# Altium footprint library BGA (0.8mm Pitch, Square).PcbLib: 26 footprints (part 1 of 2)
Each footprint in its own frame and in the unit in brackets; x right, y up, seen from the top. Pads: shape width x height; smd on the part's side, far side on the other; paste and mask are expansions set on the pad; w line width, h text height; cw(c..) or ccw(c..) is an arc to the next point about the centre after c.
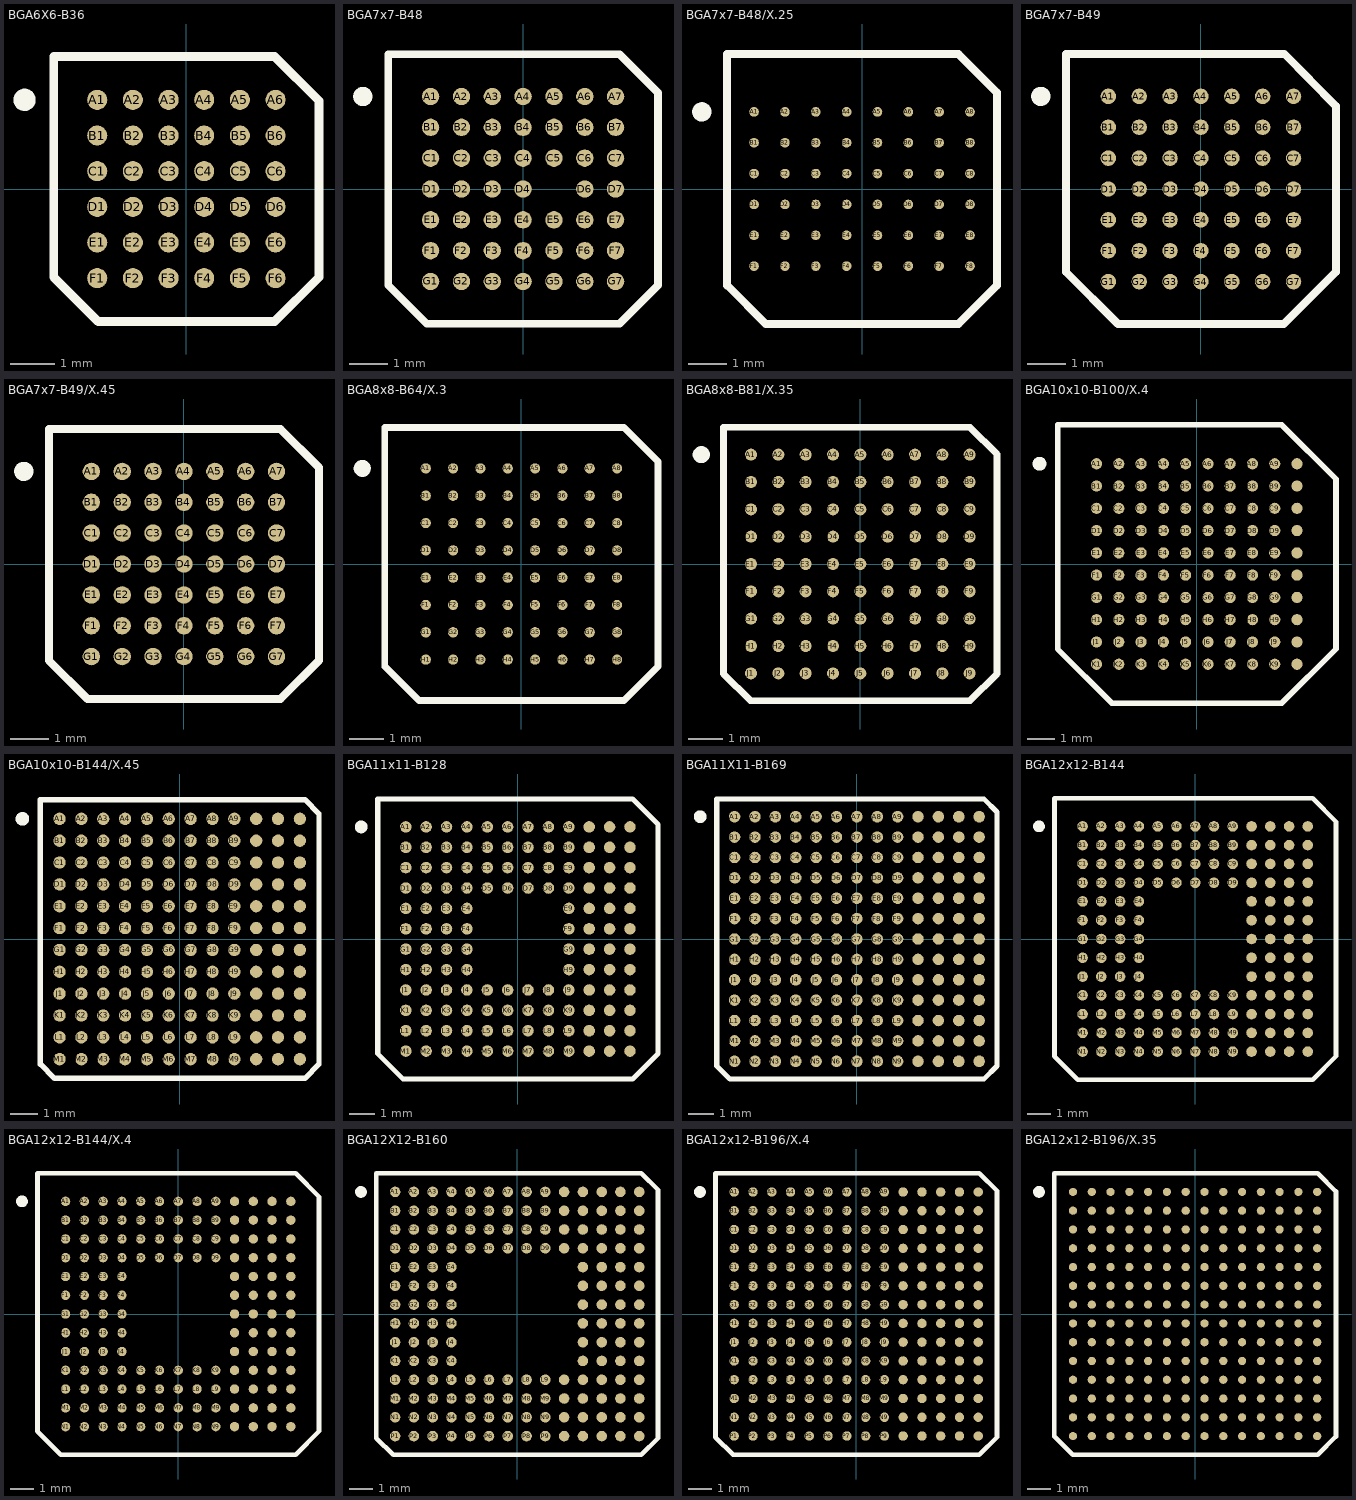
[diagram p0: the footprints below, top view; thin cyan lines are the x and y axes]

## BGA6X6-B36 [mm] "BGA, Low Profile; 36 Balls; Body 6 x 6 mm; Pitch 0.8 mm"
height 1.7
pads (36):
  round 0.45 smd: A1(-2,2) A2(-1.2,2) A3(-0.4,2) A4(0.4,2) A5(1.2,2) A6(2,2) B1(-2,1.2) B2(-1.2,1.2) B3(-0.4,1.2) B4(0.4,1.2) B5(1.2,1.2) B6(2,1.2) C1(-2,0.4) C2(-1.2,0.4) C3(-0.4,0.4) C4(0.4,0.4) C5(1.2,0.4) C6(2,0.4) D1(-2,-0.4) D2(-1.2,-0.4) D3(-0.4,-0.4) D4(0.4,-0.4) D5(1.2,-0.4) D6(2,-0.4) E1(-2,-1.2) E2(-1.2,-1.2) E3(-0.4,-1.2) E4(0.4,-1.2) E5(1.2,-1.2) E6(2,-1.2) F1(-2,-2) F2(-1.2,-2) F3(-0.4,-2) F4(0.4,-2) F5(1.2,-2) F6(2,-2)
Top Overlay:
  circle w0.25: c-3.63,2 r0.125
  lines w0.2: -2.975,-1.975 -1.975,-2.975 1.975,-2.975 2.975,-1.975 2.975,1.975 1.975,2.975 -2.975,2.975 -2.975,-1.975

## BGA7x7-B48 [mm] "48-Ball Chip Scale Ball Grid Array (CS48)"
height 1.8
pads (48):
  round 0.45 smd: A1(-2.4,2.4) A2(-1.6,2.4) A3(-0.8,2.4) A4(0,2.4) A5(0.8,2.4) A6(1.6,2.4) A7(2.4,2.4) B1(-2.4,1.6) B2(-1.6,1.6) B3(-0.8,1.6) B4(0,1.6) B5(0.8,1.6) B6(1.6,1.6) B7(2.4,1.6) C1(-2.4,0.8) C2(-1.6,0.8) C3(-0.8,0.8) C4(0,0.8) C5(0.8,0.8) C6(1.6,0.8) C7(2.4,0.8) D1(-2.4,0) D2(-1.6,0) D3(-0.8,0) D4(0,0) D6(1.6,0) D7(2.4,0) E1(-2.4,-0.8) E2(-1.6,-0.8) E3(-0.8,-0.8) E4(0,-0.8) E5(0.8,-0.8) E6(1.6,-0.8) E7(2.4,-0.8) F1(-2.4,-1.6) F2(-1.6,-1.6) F3(-0.8,-1.6) F4(0,-1.6) F5(0.8,-1.6) F6(1.6,-1.6) F7(2.4,-1.6) G1(-2.4,-2.4) G2(-1.6,-2.4) G3(-0.8,-2.4) G4(0,-2.4) G5(0.8,-2.4) G6(1.6,-2.4) G7(2.4,-2.4)
Top Overlay:
  circle w0.25: c-4.16,2.4 r0.125
  lines w0.2: -3.5,-2.5 -2.5,-3.5 2.5,-3.5 3.5,-2.5 3.5,2.5 2.5,3.5 -3.5,3.5 -3.5,-2.5

## BGA7x7-B48/X.25 [mm] "Thin BGA; 48 Balls; Body 7 x 7 mm; Pitch 0.8 mm"
height 1.2
pads (48):
  round 0.25 smd: A1(-2.8,2) A2(-2,2) A3(-1.2,2) A4(-0.4,2) A5(0.4,2) A6(1.2,2) A7(2,2) A8(2.8,2) B1(-2.8,1.2) B2(-2,1.2) B3(-1.2,1.2) B4(-0.4,1.2) B5(0.4,1.2) B6(1.2,1.2) B7(2,1.2) B8(2.8,1.2) C1(-2.8,0.4) C2(-2,0.4) C3(-1.2,0.4) C4(-0.4,0.4) C5(0.4,0.4) C6(1.2,0.4) C7(2,0.4) C8(2.8,0.4) D1(-2.8,-0.4) D2(-2,-0.4) D3(-1.2,-0.4) D4(-0.4,-0.4) D5(0.4,-0.4) D6(1.2,-0.4) D7(2,-0.4) D8(2.8,-0.4) E1(-2.8,-1.2) E2(-2,-1.2) E3(-1.2,-1.2) E4(-0.4,-1.2) E5(0.4,-1.2) E6(1.2,-1.2) E7(2,-1.2) E8(2.8,-1.2) F1(-2.8,-2) F2(-2,-2) F3(-1.2,-2) F4(-0.4,-2) F5(0.4,-2) F6(1.2,-2) F7(2,-2) F8(2.8,-2)
Top Overlay:
  circle w0.25: c-4.155,2 r0.125
  lines w0.2: -3.5,-2.5 -2.5,-3.5 2.5,-3.5 3.5,-2.5 3.5,2.5 2.5,3.5 -3.5,3.5 -3.5,-2.5

## BGA7x7-B49 [mm] "BGA; 49 Balls; Body 7 x 7 mm; Pitch 0.8 mm"
height 1.5
pads (49):
  round 0.4 smd: A1(-2.4,2.4) A2(-1.6,2.4) A3(-0.8,2.4) A4(0,2.4) A5(0.8,2.4) A6(1.6,2.4) A7(2.4,2.4) B1(-2.4,1.6) B2(-1.6,1.6) B3(-0.8,1.6) B4(0,1.6) B5(0.8,1.6) B6(1.6,1.6) B7(2.4,1.6) C1(-2.4,0.8) C2(-1.6,0.8) C3(-0.8,0.8) C4(0,0.8) C5(0.8,0.8) C6(1.6,0.8) C7(2.4,0.8) D1(-2.4,0) D2(-1.6,0) D3(-0.8,0) D4(0,0) D5(0.8,0) D6(1.6,0) D7(2.4,0) E1(-2.4,-0.8) E2(-1.6,-0.8) E3(-0.8,-0.8) E4(0,-0.8) E5(0.8,-0.8) E6(1.6,-0.8) E7(2.4,-0.8) F1(-2.4,-1.6) F2(-1.6,-1.6) F3(-0.8,-1.6) F4(0,-1.6) F5(0.8,-1.6) F6(1.6,-1.6) F7(2.4,-1.6) G1(-2.4,-2.4) G2(-1.6,-2.4) G3(-0.8,-2.4) G4(0,-2.4) G5(0.8,-2.4) G6(1.6,-2.4) G7(2.4,-2.4)
Top Overlay:
  circle w0.25: c-4.15,2.4 r0.125
  lines w0.2: 2.149,3.5 -3.5,3.5 -3.5,-2.149 -2.149,-3.5 2.149,-3.5 3.5,-2.149 3.5,2.149 2.159,3.5

## BGA7x7-B49/X.45 [mm] "49-Pin Chip Scale Package (CSP)"
height 1.5
pads (49):
  round 0.45 smd: A1(-2.4,2.4) A2(-1.6,2.4) A3(-0.8,2.4) A4(0,2.4) A5(0.8,2.4) A6(1.6,2.4) A7(2.4,2.4) B1(-2.4,1.6) B2(-1.6,1.6) B3(-0.8,1.6) B4(0,1.6) B5(0.8,1.6) B6(1.6,1.6) B7(2.4,1.6) C1(-2.4,0.8) C2(-1.6,0.8) C3(-0.8,0.8) C4(0,0.8) C5(0.8,0.8) C6(1.6,0.8) C7(2.4,0.8) D1(-2.4,0) D2(-1.6,0) D3(-0.8,0) D4(0,0) D5(0.8,0) D6(1.6,0) D7(2.4,0) E1(-2.4,-0.8) E2(-1.6,-0.8) E3(-0.8,-0.8) E4(0,-0.8) E5(0.8,-0.8) E6(1.6,-0.8) E7(2.4,-0.8) F1(-2.4,-1.6) F2(-1.6,-1.6) F3(-0.8,-1.6) F4(0,-1.6) F5(0.8,-1.6) F6(1.6,-1.6) F7(2.4,-1.6) G1(-2.4,-2.4) G2(-1.6,-2.4) G3(-0.8,-2.4) G4(0,-2.4) G5(0.8,-2.4) G6(1.6,-2.4) G7(2.4,-2.4)
Top Overlay:
  circle w0.25: c-4.15,2.4 r0.125
  lines w0.2: -3.5,-2.5 -3.5,3.5 2.5,3.5 3.5,2.5 3.5,-2.5 2.5,-3.5 -2.5,-3.5 -3.5,-2.5

## BGA8x8-B64/X.3 [mm] "BGA; 64 Balls; Body 8 x 8 mm; Pitch 0.8 mm"
height 1.1
pads (64):
  round 0.3 smd: A1(-2.8,2.8) A2(-2,2.8) A3(-1.2,2.8) A4(-0.4,2.8) A5(0.4,2.8) A6(1.2,2.8) A7(2,2.8) A8(2.8,2.8) B1(-2.8,2) B2(-2,2) B3(-1.2,2) B4(-0.4,2) B5(0.4,2) B6(1.2,2) B7(2,2) B8(2.8,2) C1(-2.8,1.2) C2(-2,1.2) C3(-1.2,1.2) C4(-0.4,1.2) C5(0.4,1.2) C6(1.2,1.2) C7(2,1.2) C8(2.8,1.2) D1(-2.8,0.4) D2(-2,0.4) D3(-1.2,0.4) D4(-0.4,0.4) D5(0.4,0.4) D6(1.2,0.4) D7(2,0.4) D8(2.8,0.4) E1(-2.8,-0.4) E2(-2,-0.4) E3(-1.2,-0.4) E4(-0.4,-0.4) E5(0.4,-0.4) E6(1.2,-0.4) E7(2,-0.4) E8(2.8,-0.4) F1(-2.8,-1.2) F2(-2,-1.2) F3(-1.2,-1.2) F4(-0.4,-1.2) F5(0.4,-1.2) F6(1.2,-1.2) F7(2,-1.2) F8(2.8,-1.2) G1(-2.8,-2) G2(-2,-2) G3(-1.2,-2) G4(-0.4,-2) G5(0.4,-2) G6(1.2,-2) G7(2,-2) G8(2.8,-2) H1(-2.8,-2.8) H2(-2,-2.8) H3(-1.2,-2.8) H4(-0.4,-2.8) H5(0.4,-2.8) H6(1.2,-2.8) H7(2,-2.8) H8(2.8,-2.8)
Top Overlay:
  circle w0.25: c-4.66,2.8 r0.125
  lines w0.2: -4,-3 -4,4 3,4 4,3 4,-3 3,-4 -3,-4 -4,-3

## BGA8x8-B81/X.35 [mm] "MAP-BGA; 81 Balls; Body 8 x 8 mm; Pitch 0.8 mm"
height 1.3
pads (81):
  round 0.35 smd: A1(-3.2,3.2) A2(-2.4,3.2) A3(-1.6,3.2) A4(-0.8,3.2) A5(0,3.2) A6(0.8,3.2) A7(1.6,3.2) A8(2.4,3.2) A9(3.2,3.2) B1(-3.2,2.4) B2(-2.4,2.4) B3(-1.6,2.4) B4(-0.8,2.4) B5(0,2.4) B6(0.8,2.4) B7(1.6,2.4) B8(2.4,2.4) B9(3.2,2.4) C1(-3.2,1.6) C2(-2.4,1.6) C3(-1.6,1.6) C4(-0.8,1.6) C5(0,1.6) C6(0.8,1.6) C7(1.6,1.6) C8(2.4,1.6) C9(3.2,1.6) D1(-3.2,0.8) D2(-2.4,0.8) D3(-1.6,0.8) D4(-0.8,0.8) D5(0,0.8) D6(0.8,0.8) D7(1.6,0.8) D8(2.4,0.8) D9(3.2,0.8) E1(-3.2,0) E2(-2.4,0) E3(-1.6,0) E4(-0.8,0) E5(0,0) E6(0.8,0) E7(1.6,0) E8(2.4,0) E9(3.2,0) F1(-3.2,-0.8) F2(-2.4,-0.8) F3(-1.6,-0.8) F4(-0.8,-0.8) F5(0,-0.8) F6(0.8,-0.8) F7(1.6,-0.8) F8(2.4,-0.8) F9(3.2,-0.8) G1(-3.2,-1.6) G2(-2.4,-1.6) G3(-1.6,-1.6) G4(-0.8,-1.6) G5(0,-1.6) G6(0.8,-1.6) G7(1.6,-1.6) G8(2.4,-1.6) G9(3.2,-1.6) H1(-3.2,-2.4) H2(-2.4,-2.4) H3(-1.6,-2.4) H4(-0.8,-2.4) H5(0,-2.4) H6(0.8,-2.4) H7(1.6,-2.4) H8(2.4,-2.4) H9(3.2,-2.4) J1(-3.2,-3.2) J2(-2.4,-3.2) J3(-1.6,-3.2) J4(-0.8,-3.2) J5(0,-3.2) J6(0.8,-3.2) J7(1.6,-3.2) J8(2.4,-3.2) J9(3.2,-3.2)
Top Overlay:
  circle w0.25: c-4.655,3.2 r0.125
  lines w0.2: -4,-3.213 -3.213,-4 3.213,-4 4,-3.213 4,3.213 3.213,4 -4,4 -4,-3.213

## BGA10x10-B100/X.4 [mm] "BGA; 100 Balls; Body 10 x 10 mm; Pitch 0.8 mm"
height 1.5
pads (100):
  round 0.4 smd: A1(-3.6,3.6) A2(-2.8,3.6) A3(-2,3.6) A4(-1.2,3.6) A5(-0.4,3.6) A6(0.4,3.6) A7(1.2,3.6) A8(2,3.6) A9(2.8,3.6) A10(3.6,3.6) B1(-3.6,2.8) B2(-2.8,2.8) B3(-2,2.8) B4(-1.2,2.8) B5(-0.4,2.8) B6(0.4,2.8) B7(1.2,2.8) B8(2,2.8) B9(2.8,2.8) B10(3.6,2.8) C1(-3.6,2) C2(-2.8,2) C3(-2,2) C4(-1.2,2) C5(-0.4,2) C6(0.4,2) C7(1.2,2) C8(2,2) C9(2.8,2) C10(3.6,2) D1(-3.6,1.2) D2(-2.8,1.2) D3(-2,1.2) D4(-1.2,1.2) D5(-0.4,1.2) D6(0.4,1.2) D7(1.2,1.2) D8(2,1.2) D9(2.8,1.2) D10(3.6,1.2) E1(-3.6,0.4) E2(-2.8,0.4) E3(-2,0.4) E4(-1.2,0.4) E5(-0.4,0.4) E6(0.4,0.4) E7(1.2,0.4) E8(2,0.4) E9(2.8,0.4) E10(3.6,0.4) F1(-3.6,-0.4) F2(-2.8,-0.4) F3(-2,-0.4) F4(-1.2,-0.4) F5(-0.4,-0.4) F6(0.4,-0.4) F7(1.2,-0.4) F8(2,-0.4) F9(2.8,-0.4) F10(3.6,-0.4) G1(-3.6,-1.2) G2(-2.8,-1.2) G3(-2,-1.2) G4(-1.2,-1.2) G5(-0.4,-1.2) G6(0.4,-1.2) G7(1.2,-1.2) G8(2,-1.2) G9(2.8,-1.2) G10(3.6,-1.2) H1(-3.6,-2) H2(-2.8,-2) H3(-2,-2) H4(-1.2,-2) H5(-0.4,-2) H6(0.4,-2) H7(1.2,-2) H8(2,-2) H9(2.8,-2) H10(3.6,-2) J1(-3.6,-2.8) J2(-2.8,-2.8) J3(-2,-2.8) J4(-1.2,-2.8) J5(-0.4,-2.8) J6(0.4,-2.8) J7(1.2,-2.8) J8(2,-2.8) J9(2.8,-2.8) J10(3.6,-2.8) K1(-3.6,-3.6) K2(-2.8,-3.6) K3(-2,-3.6) K4(-1.2,-3.6) K5(-0.4,-3.6) K6(0.4,-3.6) K7(1.2,-3.6) K8(2,-3.6) K9(2.8,-3.6) K10(3.6,-3.6)
Top Overlay:
  circle w0.25: c-5.65,3.6 r0.125
  lines w0.2: -5,-3.049 -5,5 3.049,5 5,3.049 5,-3.049 3.049,-5 -3.049,-5 -5,-3.049

## BGA10x10-B144/X.45 [mm] "BGA; 144 Balls; Body 10 x 10 mm; Pitch 0.8 mm"
height 1.4
pads (144):
  round 0.45 smd: A1(-4.4,4.4) A2(-3.6,4.4) A3(-2.8,4.4) A4(-2,4.4) A5(-1.2,4.4) A6(-0.4,4.4) A7(0.4,4.4) A8(1.2,4.4) A9(2,4.4) A10(2.8,4.4) A11(3.6,4.4) A12(4.4,4.4) B1(-4.4,3.6) B2(-3.6,3.6) B3(-2.8,3.6) B4(-2,3.6) B5(-1.2,3.6) B6(-0.4,3.6) B7(0.4,3.6) B8(1.2,3.6) B9(2,3.6) B10(2.8,3.6) B11(3.6,3.6) B12(4.4,3.6) C1(-4.4,2.8) C2(-3.6,2.8) C3(-2.8,2.8) C4(-2,2.8) C5(-1.2,2.8) C6(-0.4,2.8) C7(0.4,2.8) C8(1.2,2.8) C9(2,2.8) C10(2.8,2.8) C11(3.6,2.8) C12(4.4,2.8) D1(-4.4,2) D2(-3.6,2) D3(-2.8,2) D4(-2,2) D5(-1.2,2) D6(-0.4,2) D7(0.4,2) D8(1.2,2) D9(2,2) D10(2.8,2) D11(3.6,2) D12(4.4,2) E1(-4.4,1.2) E2(-3.6,1.2) E3(-2.8,1.2) E4(-2,1.2) E5(-1.2,1.2) E6(-0.4,1.2) E7(0.4,1.2) E8(1.2,1.2) E9(2,1.2) E10(2.8,1.2) E11(3.6,1.2) E12(4.4,1.2) F1(-4.4,0.4) F2(-3.6,0.4) F3(-2.8,0.4) F4(-2,0.4) F5(-1.2,0.4) F6(-0.4,0.4) F7(0.4,0.4) F8(1.2,0.4) F9(2,0.4) F10(2.8,0.4) F11(3.6,0.4) F12(4.4,0.4) G1(-4.4,-0.4) G2(-3.6,-0.4) G3(-2.8,-0.4) G4(-2,-0.4) G5(-1.2,-0.4) G6(-0.4,-0.4) G7(0.4,-0.4) G8(1.2,-0.4) G9(2,-0.4) G10(2.8,-0.4) G11(3.6,-0.4) G12(4.4,-0.4) H1(-4.4,-1.2) H2(-3.6,-1.2) H3(-2.8,-1.2) H4(-2,-1.2) H5(-1.2,-1.2) H6(-0.4,-1.2) H7(0.4,-1.2) H8(1.2,-1.2) H9(2,-1.2) H10(2.8,-1.2) H11(3.6,-1.2) H12(4.4,-1.2) J1(-4.4,-2) J2(-3.6,-2) J3(-2.8,-2) J4(-2,-2) J5(-1.2,-2) J6(-0.4,-2) J7(0.4,-2) J8(1.2,-2) J9(2,-2) J10(2.8,-2) J11(3.6,-2) J12(4.4,-2) K1(-4.4,-2.8) K2(-3.6,-2.8) K3(-2.8,-2.8) K4(-2,-2.8) K5(-1.2,-2.8) K6(-0.4,-2.8) K7(0.4,-2.8) K8(1.2,-2.8) K9(2,-2.8) K10(2.8,-2.8) K11(3.6,-2.8) K12(4.4,-2.8) L1(-4.4,-3.6) L2(-3.6,-3.6) L3(-2.8,-3.6) L4(-2,-3.6) L5(-1.2,-3.6) L6(-0.4,-3.6) L7(0.4,-3.6) L8(1.2,-3.6) L9(2,-3.6) L10(2.8,-3.6) L11(3.6,-3.6) L12(4.4,-3.6) M1(-4.4,-4.4) M2(-3.6,-4.4) M3(-2.8,-4.4) M4(-2,-4.4) M5(-1.2,-4.4) M6(-0.4,-4.4) M7(0.4,-4.4) M8(1.2,-4.4) M9(2,-4.4) M10(2.8,-4.4) M11(3.6,-4.4) M12(4.4,-4.4)
Top Overlay:
  circle w0.25: c-5.76,4.4 r0.125
  lines w0.2: -5.1,-4.584 -5.1,5.1 4.584,5.1 5.1,4.584 5.1,-4.584 4.584,-5.1 -4.584,-5.1 -5.1,-4.584

## BGA11x11-B128 [mm] "128-Pin Chip Scale Package (CSP)"
height 1.5
pads (128):
  round 0.45 smd: A1(-4.4,4.4) A2(-3.6,4.4) A3(-2.8,4.4) A4(-2,4.4) A5(-1.2,4.4) A6(-0.4,4.4) A7(0.4,4.4) A8(1.2,4.4) A9(2,4.4) A10(2.8,4.4) A11(3.6,4.4) A12(4.4,4.4) B1(-4.4,3.6) B2(-3.6,3.6) B3(-2.8,3.6) B4(-2,3.6) B5(-1.2,3.6) B6(-0.4,3.6) B7(0.4,3.6) B8(1.2,3.6) B9(2,3.6) B10(2.8,3.6) B11(3.6,3.6) B12(4.4,3.6) C1(-4.4,2.8) C2(-3.6,2.8) C3(-2.8,2.8) C4(-2,2.8) C5(-1.2,2.8) C6(-0.4,2.8) C7(0.4,2.8) C8(1.2,2.8) C9(2,2.8) C10(2.8,2.8) C11(3.6,2.8) C12(4.4,2.8) D1(-4.4,2) D2(-3.6,2) D3(-2.8,2) D4(-2,2) D5(-1.2,2) D6(-0.4,2) D7(0.4,2) D8(1.2,2) D9(2,2) D10(2.8,2) D11(3.6,2) D12(4.4,2) E1(-4.4,1.2) E2(-3.6,1.2) E3(-2.8,1.2) E4(-2,1.2) E9(2,1.2) E10(2.8,1.2) E11(3.6,1.2) E12(4.4,1.2) F1(-4.4,0.4) F2(-3.6,0.4) F3(-2.8,0.4) F4(-2,0.4) F9(2,0.4) F10(2.8,0.4) F11(3.6,0.4) F12(4.4,0.4) G1(-4.4,-0.4) G2(-3.6,-0.4) G3(-2.8,-0.4) G4(-2,-0.4) G9(2,-0.4) G10(2.8,-0.4) G11(3.6,-0.4) G12(4.4,-0.4) H1(-4.4,-1.2) H2(-3.6,-1.2) H3(-2.8,-1.2) H4(-2,-1.2) H9(2,-1.2) H10(2.8,-1.2) H11(3.6,-1.2) H12(4.4,-1.2) J1(-4.4,-2) J2(-3.6,-2) J3(-2.8,-2) J4(-2,-2) J5(-1.2,-2) J6(-0.4,-2) J7(0.4,-2) J8(1.2,-2) J9(2,-2) J10(2.8,-2) J11(3.6,-2) J12(4.4,-2) K1(-4.4,-2.8) K2(-3.6,-2.8) K3(-2.8,-2.8) K4(-2,-2.8) K5(-1.2,-2.8) K6(-0.4,-2.8) K7(0.4,-2.8) K8(1.2,-2.8) K9(2,-2.8) K10(2.8,-2.8) K11(3.6,-2.8) K12(4.4,-2.8) L1(-4.4,-3.6) L2(-3.6,-3.6) L3(-2.8,-3.6) L4(-2,-3.6) L5(-1.2,-3.6) L6(-0.4,-3.6) L7(0.4,-3.6) L8(1.2,-3.6) L9(2,-3.6) L10(2.8,-3.6) L11(3.6,-3.6) L12(4.4,-3.6) M1(-4.4,-4.4) M2(-3.6,-4.4) M3(-2.8,-4.4) M4(-2,-4.4) M5(-1.2,-4.4) M6(-0.4,-4.4) M7(0.4,-4.4) M8(1.2,-4.4) M9(2,-4.4) M10(2.8,-4.4) M11(3.6,-4.4) M12(4.4,-4.4)
Top Overlay:
  circle w0.25: c-6.15,4.4 r0.125
  lines w0.2: -5.5,-4.5 -5.5,5.5 4.5,5.5 5.5,4.5 5.5,-4.5 4.5,-5.5 -4.5,-5.5 -5.5,-4.5

## BGA11X11-B169 [mm] "169-Pin Ultra FineLine Ball-Grid Array (UBGA)"
height 2.2
pads (169):
  round 0.45 smd: A1(-4.8,4.8) A2(-4,4.8) A3(-3.2,4.8) A4(-2.4,4.8) A5(-1.6,4.8) A6(-0.8,4.8) A7(0,4.8) A8(0.8,4.8) A9(1.6,4.8) A10(2.4,4.8) A11(3.2,4.8) A12(4,4.8) A13(4.8,4.8) B1(-4.8,4) B2(-4,4) B3(-3.2,4) B4(-2.4,4) B5(-1.6,4) B6(-0.8,4) B7(0,4) B8(0.8,4) B9(1.6,4) B10(2.4,4) B11(3.2,4) B12(4,4) B13(4.8,4) C1(-4.8,3.2) C2(-4,3.2) C3(-3.2,3.2) C4(-2.4,3.2) C5(-1.6,3.2) C6(-0.8,3.2) C7(0,3.2) C8(0.8,3.2) C9(1.6,3.2) C10(2.4,3.2) C11(3.2,3.2) C12(4,3.2) C13(4.8,3.2) D1(-4.8,2.4) D2(-4,2.4) D3(-3.2,2.4) D4(-2.4,2.4) D5(-1.6,2.4) D6(-0.8,2.4) D7(0,2.4) D8(0.8,2.4) D9(1.6,2.4) D10(2.4,2.4) D11(3.2,2.4) D12(4,2.4) D13(4.8,2.4) E1(-4.8,1.6) E2(-4,1.6) E3(-3.2,1.6) E4(-2.4,1.6) E5(-1.6,1.6) E6(-0.8,1.6) E7(0,1.6) E8(0.8,1.6) E9(1.6,1.6) E10(2.4,1.6) E11(3.2,1.6) E12(4,1.6) E13(4.8,1.6) F1(-4.8,0.8) F2(-4,0.8) F3(-3.2,0.8) F4(-2.4,0.8) F5(-1.6,0.8) F6(-0.8,0.8) F7(0,0.8) F8(0.8,0.8) F9(1.6,0.8) F10(2.4,0.8) F11(3.2,0.8) F12(4,0.8) F13(4.8,0.8) G1(-4.8,0) G2(-4,0) G3(-3.2,0) G4(-2.4,0) G5(-1.6,0) G6(-0.8,0) G7(0,0) G8(0.8,0) G9(1.6,0) G10(2.4,0) G11(3.2,0) G12(4,0) G13(4.8,0) H1(-4.8,-0.8) H2(-4,-0.8) H3(-3.2,-0.8) H4(-2.4,-0.8) H5(-1.6,-0.8) H6(-0.8,-0.8) H7(0,-0.8) H8(0.8,-0.8) H9(1.6,-0.8) H10(2.4,-0.8) H11(3.2,-0.8) H12(4,-0.8) H13(4.8,-0.8) J1(-4.8,-1.6) J2(-4,-1.6) J3(-3.2,-1.6) J4(-2.4,-1.6) J5(-1.6,-1.6) J6(-0.8,-1.6) J7(0,-1.6) J8(0.8,-1.6) J9(1.6,-1.6) J10(2.4,-1.6) J11(3.2,-1.6) J12(4,-1.6) J13(4.8,-1.6) K1(-4.8,-2.4) K2(-4,-2.4) K3(-3.2,-2.4) K4(-2.4,-2.4) K5(-1.6,-2.4) K6(-0.8,-2.4) K7(0,-2.4) K8(0.8,-2.4) K9(1.6,-2.4) K10(2.4,-2.4) K11(3.2,-2.4) K12(4,-2.4) K13(4.8,-2.4) L1(-4.8,-3.2) L2(-4,-3.2) L3(-3.2,-3.2) L4(-2.4,-3.2) L5(-1.6,-3.2) L6(-0.8,-3.2) L7(0,-3.2) L8(0.8,-3.2) L9(1.6,-3.2) L10(2.4,-3.2) L11(3.2,-3.2) L12(4,-3.2) L13(4.8,-3.2) M1(-4.8,-4) M2(-4,-4) M3(-3.2,-4) M4(-2.4,-4) M5(-1.6,-4) M6(-0.8,-4) M7(0,-4) M8(0.8,-4) M9(1.6,-4) M10(2.4,-4) M11(3.2,-4) M12(4,-4) M13(4.8,-4) N1(-4.8,-4.8) N2(-4,-4.8) N3(-3.2,-4.8) N4(-2.4,-4.8) N5(-1.6,-4.8) N6(-0.8,-4.8) N7(0,-4.8) N8(0.8,-4.8) N9(1.6,-4.8) N10(2.4,-4.8) N11(3.2,-4.8) N12(4,-4.8) N13(4.8,-4.8)
Top Overlay:
  circle w0.25: c-6.15,4.8 r0.125
  lines w0.2: -5.5,-4.984 -4.984,-5.5 4.984,-5.5 5.5,-4.984 5.5,4.984 4.984,5.5 -5.5,5.5 -5.5,-4.984

## BGA12x12-B144 [mm] "BGA; 144 Balls; Body 12 x 12 mm; Pitch 0.8 mm"
height 1.4
pads (144):
  round 0.45 smd: A1(-4.8,4.8) A2(-4,4.8) A3(-3.2,4.8) A4(-2.4,4.8) A5(-1.6,4.8) A6(-0.8,4.8) A7(0,4.8) A8(0.8,4.8) A9(1.6,4.8) A10(2.4,4.8) A11(3.2,4.8) A12(4,4.8) A13(4.8,4.8) B1(-4.8,4) B2(-4,4) B3(-3.2,4) B4(-2.4,4) B5(-1.6,4) B6(-0.8,4) B7(0,4) B8(0.8,4) B9(1.6,4) B10(2.4,4) B11(3.2,4) B12(4,4) B13(4.8,4) C1(-4.8,3.2) C2(-4,3.2) C3(-3.2,3.2) C4(-2.4,3.2) C5(-1.6,3.2) C6(-0.8,3.2) C7(0,3.2) C8(0.8,3.2) C9(1.6,3.2) C10(2.4,3.2) C11(3.2,3.2) C12(4,3.2) C13(4.8,3.2) D1(-4.8,2.4) D2(-4,2.4) D3(-3.2,2.4) D4(-2.4,2.4) D5(-1.6,2.4) D6(-0.8,2.4) D7(0,2.4) D8(0.8,2.4) D9(1.6,2.4) D10(2.4,2.4) D11(3.2,2.4) D12(4,2.4) D13(4.8,2.4) E1(-4.8,1.6) E2(-4,1.6) E3(-3.2,1.6) E4(-2.4,1.6) E10(2.4,1.6) E11(3.2,1.6) E12(4,1.6) E13(4.8,1.6) F1(-4.8,0.8) F2(-4,0.8) F3(-3.2,0.8) F4(-2.4,0.8) F10(2.4,0.8) F11(3.2,0.8) F12(4,0.8) F13(4.8,0.8) G1(-4.8,0) G2(-4,0) G3(-3.2,0) G4(-2.4,0) G10(2.4,0) G11(3.2,0) G12(4,0) G13(4.8,0) H1(-4.8,-0.8) H2(-4,-0.8) H3(-3.2,-0.8) H4(-2.4,-0.8) H10(2.4,-0.8) H11(3.2,-0.8) H12(4,-0.8) H13(4.8,-0.8) J1(-4.8,-1.6) J2(-4,-1.6) J3(-3.2,-1.6) J4(-2.4,-1.6) J10(2.4,-1.6) J11(3.2,-1.6) J12(4,-1.6) J13(4.8,-1.6) K1(-4.8,-2.4) K2(-4,-2.4) K3(-3.2,-2.4) K4(-2.4,-2.4) K5(-1.6,-2.4) K6(-0.8,-2.4) K7(0,-2.4) K8(0.8,-2.4) K9(1.6,-2.4) K10(2.4,-2.4) K11(3.2,-2.4) K12(4,-2.4) K13(4.8,-2.4) L1(-4.8,-3.2) L2(-4,-3.2) L3(-3.2,-3.2) L4(-2.4,-3.2) L5(-1.6,-3.2) L6(-0.8,-3.2) L7(0,-3.2) L8(0.8,-3.2) L9(1.6,-3.2) L10(2.4,-3.2) L11(3.2,-3.2) L12(4,-3.2) L13(4.8,-3.2) M1(-4.8,-4) M2(-4,-4) M3(-3.2,-4) M4(-2.4,-4) M5(-1.6,-4) M6(-0.8,-4) M7(0,-4) M8(0.8,-4) M9(1.6,-4) M10(2.4,-4) M11(3.2,-4) M12(4,-4) M13(4.8,-4) N1(-4.8,-4.8) N2(-4,-4.8) N3(-3.2,-4.8) N4(-2.4,-4.8) N5(-1.6,-4.8) N6(-0.8,-4.8) N7(0,-4.8) N8(0.8,-4.8) N9(1.6,-4.8) N10(2.4,-4.8) N11(3.2,-4.8) N12(4,-4.8) N13(4.8,-4.8)
Top Overlay:
  circle w0.25: c-6.66,4.8 r0.125
  lines w0.2: -6,-5 -6,6 5,6 6,5 6,-5 5,-6 -5,-6 -6,-5

## BGA12x12-B144/X.4 [mm] "144-Ball Chip Scale Ball Grid Array (CS144)"
height 1.2
pads (144):
  round 0.4 smd: A1(-4.8,4.8) A2(-4,4.8) A3(-3.2,4.8) A4(-2.4,4.8) A5(-1.6,4.8) A6(-0.8,4.8) A7(0,4.8) A8(0.8,4.8) A9(1.6,4.8) A10(2.4,4.8) A11(3.2,4.8) A12(4,4.8) A13(4.8,4.8) B1(-4.8,4) B2(-4,4) B3(-3.2,4) B4(-2.4,4) B5(-1.6,4) B6(-0.8,4) B7(0,4) B8(0.8,4) B9(1.6,4) B10(2.4,4) B11(3.2,4) B12(4,4) B13(4.8,4) C1(-4.8,3.2) C2(-4,3.2) C3(-3.2,3.2) C4(-2.4,3.2) C5(-1.6,3.2) C6(-0.8,3.2) C7(0,3.2) C8(0.8,3.2) C9(1.6,3.2) C10(2.4,3.2) C11(3.2,3.2) C12(4,3.2) C13(4.8,3.2) D1(-4.8,2.4) D2(-4,2.4) D3(-3.2,2.4) D4(-2.4,2.4) D5(-1.6,2.4) D6(-0.8,2.4) D7(0,2.4) D8(0.8,2.4) D9(1.6,2.4) D10(2.4,2.4) D11(3.2,2.4) D12(4,2.4) D13(4.8,2.4) E1(-4.8,1.6) E2(-4,1.6) E3(-3.2,1.6) E4(-2.4,1.6) E10(2.4,1.6) E11(3.2,1.6) E12(4,1.6) E13(4.8,1.6) F1(-4.8,0.8) F2(-4,0.8) F3(-3.2,0.8) F4(-2.4,0.8) F10(2.4,0.8) F11(3.2,0.8) F12(4,0.8) F13(4.8,0.8) G1(-4.8,0) G2(-4,0) G3(-3.2,0) G4(-2.4,0) G10(2.4,0) G11(3.2,0) G12(4,0) G13(4.8,0) H1(-4.8,-0.8) H2(-4,-0.8) H3(-3.2,-0.8) H4(-2.4,-0.8) H10(2.4,-0.8) H11(3.2,-0.8) H12(4,-0.8) H13(4.8,-0.8) J1(-4.8,-1.6) J2(-4,-1.6) J3(-3.2,-1.6) J4(-2.4,-1.6) J10(2.4,-1.6) J11(3.2,-1.6) J12(4,-1.6) J13(4.8,-1.6) K1(-4.8,-2.4) K2(-4,-2.4) K3(-3.2,-2.4) K4(-2.4,-2.4) K5(-1.6,-2.4) K6(-0.8,-2.4) K7(0,-2.4) K8(0.8,-2.4) K9(1.6,-2.4) K10(2.4,-2.4) K11(3.2,-2.4) K12(4,-2.4) K13(4.8,-2.4) L1(-4.8,-3.2) L2(-4,-3.2) L3(-3.2,-3.2) L4(-2.4,-3.2) L5(-1.6,-3.2) L6(-0.8,-3.2) L7(0,-3.2) L8(0.8,-3.2) L9(1.6,-3.2) L10(2.4,-3.2) L11(3.2,-3.2) L12(4,-3.2) L13(4.8,-3.2) M1(-4.8,-4) M2(-4,-4) M3(-3.2,-4) M4(-2.4,-4) M5(-1.6,-4) M6(-0.8,-4) M7(0,-4) M8(0.8,-4) M9(1.6,-4) M10(2.4,-4) M11(3.2,-4) M12(4,-4) M13(4.8,-4) N1(-4.8,-4.8) N2(-4,-4.8) N3(-3.2,-4.8) N4(-2.4,-4.8) N5(-1.6,-4.8) N6(-0.8,-4.8) N7(0,-4.8) N8(0.8,-4.8) N9(1.6,-4.8) N10(2.4,-4.8) N11(3.2,-4.8) N12(4,-4.8) N13(4.8,-4.8)
Top Overlay:
  circle w0.25: c-6.66,4.8 r0.125
  lines w0.2: -6,-5 -6,6 5,6 6,5 6,-5 5,-6 -5,-6 -6,-5

## BGA12X12-B160 [mm] "BGA, Mini Plastic; 160 Balls; Body 12 x 12 mm; Pitch 0.8 mm"
height 1.7
pads (160):
  round 0.45 smd: A1(-5.2,5.2) A2(-4.4,5.2) A3(-3.6,5.2) A4(-2.8,5.2) A5(-2,5.2) A6(-1.2,5.2) A7(-0.4,5.2) A8(0.4,5.2) A9(1.2,5.2) A10(2,5.2) A11(2.8,5.2) A12(3.6,5.2) A13(4.4,5.2) A14(5.2,5.2) B1(-5.2,4.4) B2(-4.4,4.4) B3(-3.6,4.4) B4(-2.8,4.4) B5(-2,4.4) B6(-1.2,4.4) B7(-0.4,4.4) B8(0.4,4.4) B9(1.2,4.4) B10(2,4.4) B11(2.8,4.4) B12(3.6,4.4) B13(4.4,4.4) B14(5.2,4.4) C1(-5.2,3.6) C2(-4.4,3.6) C3(-3.6,3.6) C4(-2.8,3.6) C5(-2,3.6) C6(-1.2,3.6) C7(-0.4,3.6) C8(0.4,3.6) C9(1.2,3.6) C10(2,3.6) C11(2.8,3.6) C12(3.6,3.6) C13(4.4,3.6) C14(5.2,3.6) D1(-5.2,2.8) D2(-4.4,2.8) D3(-3.6,2.8) D4(-2.8,2.8) D5(-2,2.8) D6(-1.2,2.8) D7(-0.4,2.8) D8(0.4,2.8) D9(1.2,2.8) D10(2,2.8) D11(2.8,2.8) D12(3.6,2.8) D13(4.4,2.8) D14(5.2,2.8) E1(-5.2,2) E2(-4.4,2) E3(-3.6,2) E4(-2.8,2) E11(2.8,2) E12(3.6,2) E13(4.4,2) E14(5.2,2) F1(-5.2,1.2) F2(-4.4,1.2) F3(-3.6,1.2) F4(-2.8,1.2) F11(2.8,1.2) F12(3.6,1.2) F13(4.4,1.2) F14(5.2,1.2) G1(-5.2,0.4) G2(-4.4,0.4) G3(-3.6,0.4) G4(-2.8,0.4) G11(2.8,0.4) G12(3.6,0.4) G13(4.4,0.4) G14(5.2,0.4) H1(-5.2,-0.4) H2(-4.4,-0.4) H3(-3.6,-0.4) H4(-2.8,-0.4) H11(2.8,-0.4) H12(3.6,-0.4) H13(4.4,-0.4) H14(5.2,-0.4) J1(-5.2,-1.2) J2(-4.4,-1.2) J3(-3.6,-1.2) J4(-2.8,-1.2) J11(2.8,-1.2) J12(3.6,-1.2) J13(4.4,-1.2) J14(5.2,-1.2) K1(-5.2,-2) K2(-4.4,-2) K3(-3.6,-2) K4(-2.8,-2) K11(2.8,-2) K12(3.6,-2) K13(4.4,-2) K14(5.2,-2) L1(-5.2,-2.8) L2(-4.4,-2.8) L3(-3.6,-2.8) L4(-2.8,-2.8) L5(-2,-2.8) L6(-1.2,-2.8) L7(-0.4,-2.8) L8(0.4,-2.8) L9(1.2,-2.8) L10(2,-2.8) L11(2.8,-2.8) L12(3.6,-2.8) L13(4.4,-2.8) L14(5.2,-2.8) M1(-5.2,-3.6) M2(-4.4,-3.6) M3(-3.6,-3.6) M4(-2.8,-3.6) M5(-2,-3.6) M6(-1.2,-3.6) M7(-0.4,-3.6) M8(0.4,-3.6) M9(1.2,-3.6) M10(2,-3.6) M11(2.8,-3.6) M12(3.6,-3.6) M13(4.4,-3.6) M14(5.2,-3.6) N1(-5.2,-4.4) N2(-4.4,-4.4) N3(-3.6,-4.4) N4(-2.8,-4.4) N5(-2,-4.4) N6(-1.2,-4.4) N7(-0.4,-4.4) N8(0.4,-4.4) N9(1.2,-4.4) N10(2,-4.4) N11(2.8,-4.4) N12(3.6,-4.4) N13(4.4,-4.4) N14(5.2,-4.4) P1(-5.2,-5.2) P2(-4.4,-5.2) P3(-3.6,-5.2) P4(-2.8,-5.2) P5(-2,-5.2) P6(-1.2,-5.2) P7(-0.4,-5.2) P8(0.4,-5.2) P9(1.2,-5.2) P10(2,-5.2) P11(2.8,-5.2) P12(3.6,-5.2) P13(4.4,-5.2) P14(5.2,-5.2)
Top Overlay:
  circle w0.25: c-6.655,5.2 r0.125
  lines w0.2: -6,-5.284 -5.284,-6 5.284,-6 6,-5.284 6,5.284 5.284,6 -6,6 -6,-5.284

## BGA12x12-B196/X.4 [mm] "BGA; 196 Balls; Body 12 x 12 mm; Pitch 0.8 mm"
height 1.5
pads (196):
  round 0.4 smd: A1(-5.2,5.2) A2(-4.4,5.2) A3(-3.6,5.2) A4(-2.8,5.2) A5(-2,5.2) A6(-1.2,5.2) A7(-0.4,5.2) A8(0.4,5.2) A9(1.2,5.2) A10(2,5.2) A11(2.8,5.2) A12(3.6,5.2) A13(4.4,5.2) A14(5.2,5.2) B1(-5.2,4.4) B2(-4.4,4.4) B3(-3.6,4.4) B4(-2.8,4.4) B5(-2,4.4) B6(-1.2,4.4) B7(-0.4,4.4) B8(0.4,4.4) B9(1.2,4.4) B10(2,4.4) B11(2.8,4.4) B12(3.6,4.4) B13(4.4,4.4) B14(5.2,4.4) C1(-5.2,3.6) C2(-4.4,3.6) C3(-3.6,3.6) C4(-2.8,3.6) C5(-2,3.6) C6(-1.2,3.6) C7(-0.4,3.6) C8(0.4,3.6) C9(1.2,3.6) C10(2,3.6) C11(2.8,3.6) C12(3.6,3.6) C13(4.4,3.6) C14(5.2,3.6) D1(-5.2,2.8) D2(-4.4,2.8) D3(-3.6,2.8) D4(-2.8,2.8) D5(-2,2.8) D6(-1.2,2.8) D7(-0.4,2.8) D8(0.4,2.8) D9(1.2,2.8) D10(2,2.8) D11(2.8,2.8) D12(3.6,2.8) D13(4.4,2.8) D14(5.2,2.8) E1(-5.2,2) E2(-4.4,2) E3(-3.6,2) E4(-2.8,2) E5(-2,2) E6(-1.2,2) E7(-0.4,2) E8(0.4,2) E9(1.2,2) E10(2,2) E11(2.8,2) E12(3.6,2) E13(4.4,2) E14(5.2,2) F1(-5.2,1.2) F2(-4.4,1.2) F3(-3.6,1.2) F4(-2.8,1.2) F5(-2,1.2) F6(-1.2,1.2) F7(-0.4,1.2) F8(0.4,1.2) F9(1.2,1.2) F10(2,1.2) F11(2.8,1.2) F12(3.6,1.2) F13(4.4,1.2) F14(5.2,1.2) G1(-5.2,0.4) G2(-4.4,0.4) G3(-3.6,0.4) G4(-2.8,0.4) G5(-2,0.4) G6(-1.2,0.4) G7(-0.4,0.4) G8(0.4,0.4) G9(1.2,0.4) G10(2,0.4) G11(2.8,0.4) G12(3.6,0.4) G13(4.4,0.4) G14(5.2,0.4) H1(-5.2,-0.4) H2(-4.4,-0.4) H3(-3.6,-0.4) H4(-2.8,-0.4) H5(-2,-0.4) H6(-1.2,-0.4) H7(-0.4,-0.4) H8(0.4,-0.4) H9(1.2,-0.4) H10(2,-0.4) H11(2.8,-0.4) H12(3.6,-0.4) H13(4.4,-0.4) H14(5.2,-0.4) J1(-5.2,-1.2) J2(-4.4,-1.2) J3(-3.6,-1.2) J4(-2.8,-1.2) J5(-2,-1.2) J6(-1.2,-1.2) J7(-0.4,-1.2) J8(0.4,-1.2) J9(1.2,-1.2) J10(2,-1.2) J11(2.8,-1.2) J12(3.6,-1.2) J13(4.4,-1.2) J14(5.2,-1.2) K1(-5.2,-2) K2(-4.4,-2) K3(-3.6,-2) K4(-2.8,-2) K5(-2,-2) K6(-1.2,-2) K7(-0.4,-2) K8(0.4,-2) K9(1.2,-2) K10(2,-2) K11(2.8,-2) K12(3.6,-2) K13(4.4,-2) K14(5.2,-2) L1(-5.2,-2.8) L2(-4.4,-2.8) L3(-3.6,-2.8) L4(-2.8,-2.8) L5(-2,-2.8) L6(-1.2,-2.8) L7(-0.4,-2.8) L8(0.4,-2.8) L9(1.2,-2.8) L10(2,-2.8) L11(2.8,-2.8) L12(3.6,-2.8) L13(4.4,-2.8) L14(5.2,-2.8) M1(-5.2,-3.6) M2(-4.4,-3.6) M3(-3.6,-3.6) M4(-2.8,-3.6) M5(-2,-3.6) M6(-1.2,-3.6) M7(-0.4,-3.6) M8(0.4,-3.6) M9(1.2,-3.6) M10(2,-3.6) M11(2.8,-3.6) M12(3.6,-3.6) M13(4.4,-3.6) M14(5.2,-3.6) N1(-5.2,-4.4) N2(-4.4,-4.4) N3(-3.6,-4.4) N4(-2.8,-4.4) N5(-2,-4.4) N6(-1.2,-4.4) N7(-0.4,-4.4) N8(0.4,-4.4) N9(1.2,-4.4) N10(2,-4.4) N11(2.8,-4.4) N12(3.6,-4.4) N13(4.4,-4.4) N14(5.2,-4.4) P1(-5.2,-5.2) P2(-4.4,-5.2) P3(-3.6,-5.2) P4(-2.8,-5.2) P5(-2,-5.2) P6(-1.2,-5.2) P7(-0.4,-5.2) P8(0.4,-5.2) P9(1.2,-5.2) P10(2,-5.2) P11(2.8,-5.2) P12(3.6,-5.2) P13(4.4,-5.2) P14(5.2,-5.2)
Top Overlay:
  circle w0.25: c-6.66,5.2 r0.125
  lines w0.2: 5.249,-6 -5.249,-6 -6,-5.249 -6,6 5.249,6 6,5.249 ; 5.249,-6 5.249,-6 ; 5.249,-6 6,-5.249 6,5.249 ; 6,5.249 6,5.249

## BGA12x12-B196/X.35 [mm] "MAP-BGA; 196 Balls; Body 12 x 12 mm; Pitch 0.8 mm"
height 1.36
pads (196):
  round 0.35 smd: A1(-5.2,5.2) A2(-4.4,5.2) A3(-3.6,5.2) A4(-2.8,5.2) A5(-2,5.2) A6(-1.2,5.2) A7(-0.4,5.2) A8(0.4,5.2) A9(1.2,5.2) A10(2,5.2) A11(2.8,5.2) A12(3.6,5.2) A13(4.4,5.2) A14(5.2,5.2) B1(-5.2,4.4) B2(-4.4,4.4) B3(-3.6,4.4) B4(-2.8,4.4) B5(-2,4.4) B6(-1.2,4.4) B7(-0.4,4.4) B8(0.4,4.4) B9(1.2,4.4) B10(2,4.4) B11(2.8,4.4) B12(3.6,4.4) B13(4.4,4.4) B14(5.2,4.4) C1(-5.2,3.6) C2(-4.4,3.6) C3(-3.6,3.6) C4(-2.8,3.6) C5(-2,3.6) C6(-1.2,3.6) C7(-0.4,3.6) C8(0.4,3.6) C9(1.2,3.6) C10(2,3.6) C11(2.8,3.6) C12(3.6,3.6) C13(4.4,3.6) C14(5.2,3.6) D1(-5.2,2.8) D2(-4.4,2.8) D3(-3.6,2.8) D4(-2.8,2.8) D5(-2,2.8) D6(-1.2,2.8) D7(-0.4,2.8) D8(0.4,2.8) D9(1.2,2.8) D10(2,2.8) D11(2.8,2.8) D12(3.6,2.8) D13(4.4,2.8) D14(5.2,2.8) E1(-5.2,2) E2(-4.4,2) E3(-3.6,2) E4(-2.8,2) E5(-2,2) E6(-1.2,2) E7(-0.4,2) E8(0.4,2) E9(1.2,2) E10(2,2) E11(2.8,2) E12(3.6,2) E13(4.4,2) E14(5.2,2) F1(-5.2,1.2) F2(-4.4,1.2) F3(-3.6,1.2) F4(-2.8,1.2) F5(-2,1.2) F6(-1.2,1.2) F7(-0.4,1.2) F8(0.4,1.2) F9(1.2,1.2) F10(2,1.2) F11(2.8,1.2) F12(3.6,1.2) F13(4.4,1.2) F14(5.2,1.2) G1(-5.2,0.4) G2(-4.4,0.4) G3(-3.6,0.4) G4(-2.8,0.4) G5(-2,0.4) G6(-1.2,0.4) G7(-0.4,0.4) G8(0.4,0.4) G9(1.2,0.4) G10(2,0.4) G11(2.8,0.4) G12(3.6,0.4) G13(4.4,0.4) G14(5.2,0.4) H1(-5.2,-0.4) H2(-4.4,-0.4) H3(-3.6,-0.4) H4(-2.8,-0.4) H5(-2,-0.4) H6(-1.2,-0.4) H7(-0.4,-0.4) H8(0.4,-0.4) H9(1.2,-0.4) H10(2,-0.4) H11(2.8,-0.4) H12(3.6,-0.4) H13(4.4,-0.4) H14(5.2,-0.4) J1(-5.2,-1.2) J2(-4.4,-1.2) J3(-3.6,-1.2) J4(-2.8,-1.2) J5(-2,-1.2) J6(-1.2,-1.2) J7(-0.4,-1.2) J8(0.4,-1.2) J9(1.2,-1.2) J10(2,-1.2) J11(2.8,-1.2) J12(3.6,-1.2) J13(4.4,-1.2) J14(5.2,-1.2) K1(-5.2,-2) K2(-4.4,-2) K3(-3.6,-2) K4(-2.8,-2) K5(-2,-2) K6(-1.2,-2) K7(-0.4,-2) K8(0.4,-2) K9(1.2,-2) K10(2,-2) K11(2.8,-2) K12(3.6,-2) K13(4.4,-2) K14(5.2,-2) L1(-5.2,-2.8) L2(-4.4,-2.8) L3(-3.6,-2.8) L4(-2.8,-2.8) L5(-2,-2.8) L6(-1.2,-2.8) L7(-0.4,-2.8) L8(0.4,-2.8) L9(1.2,-2.8) L10(2,-2.8) L11(2.8,-2.8) L12(3.6,-2.8) L13(4.4,-2.8) L14(5.2,-2.8) M1(-5.2,-3.6) M2(-4.4,-3.6) M3(-3.6,-3.6) M4(-2.8,-3.6) M5(-2,-3.6) M6(-1.2,-3.6) M7(-0.4,-3.6) M8(0.4,-3.6) M9(1.2,-3.6) M10(2,-3.6) M11(2.8,-3.6) M12(3.6,-3.6) M13(4.4,-3.6) M14(5.2,-3.6) N1(-5.2,-4.4) N2(-4.4,-4.4) N3(-3.6,-4.4) N4(-2.8,-4.4) N5(-2,-4.4) N6(-1.2,-4.4) N7(-0.4,-4.4) N8(0.4,-4.4) N9(1.2,-4.4) N10(2,-4.4) N11(2.8,-4.4) N12(3.6,-4.4) N13(4.4,-4.4) N14(5.2,-4.4) P1(-5.2,-5.2) P2(-4.4,-5.2) P3(-3.6,-5.2) P4(-2.8,-5.2) P5(-2,-5.2) P6(-1.2,-5.2) P7(-0.4,-5.2) P8(0.4,-5.2) P9(1.2,-5.2) P10(2,-5.2) P11(2.8,-5.2) P12(3.6,-5.2) P13(4.4,-5.2) P14(5.2,-5.2)
Top Overlay:
  circle w0.25: c-6.65,5.2 r0.125
  lines w0.2: -6,-5.213 -5.213,-6 5.213,-6 6,-5.213 6,5.213 5.213,6 -6,6 -6,-5.213